# Altium footprint library PCB - LEADLESS - QFN - ST QFN-24 EP 4x4MM.PcbLib: 1 footprints
Each footprint in its own frame and in the unit in brackets; x right, y up, seen from the top. Pads: shape width x height; smd on the part's side, far side on the other; paste and mask are expansions set on the pad; w line width, h text height; cw(c..) or ccw(c..) is an arc to the next point about the centre after c.
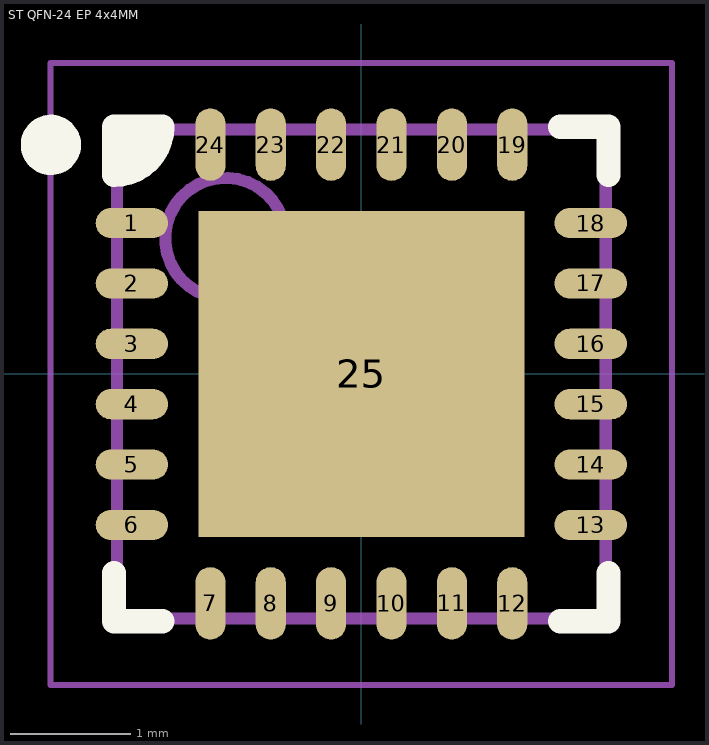
[diagram p0: the footprint, top view; thin cyan lines are the x and y axes]

## ST QFN-24 EP 4x4MM [mm] "QFN, 24-Leads, Body 4.00x4.00mm, Pitch 0.50mm, Thermal Pad 2.70x2.70mm, IPC Medium Density"
height 1
pads (25):
  oval 0.6x0.25 smd: 1(-1.9,1.25) 2(-1.9,0.75) 3(-1.9,0.25) 4(-1.9,-0.25) 5(-1.9,-0.75) 6(-1.9,-1.25) 13(1.9,-1.25) 14(1.9,-0.75) 15(1.9,-0.25) 16(1.9,0.25) 17(1.9,0.75) 18(1.9,1.25)
  oval 0.25x0.6 smd: 7(-1.25,-1.9) 8(-0.75,-1.9) 9(-0.25,-1.9) 10(0.25,-1.9) 11(0.75,-1.9) 12(1.25,-1.9) 19(1.25,1.9) 20(0.75,1.9) 21(0.25,1.9) 22(-0.25,1.9) 23(-0.75,1.9) 24(-1.25,1.9)
  rect 2.7x2.7 smd: 25(0,0)
Top Overlay:
  circle w0.25: c-2.571,1.898 r0.125
  region: -2.048,2.048 -1.648,2.048 -1.648,1.908 -1.908,1.648 -2.048,1.648
  lines w0.2: -2.048,-1.648 -2.048,-2.048 -1.648,-2.048 ; 1.648,-2.048 2.048,-2.048 2.048,-1.648 ; 1.648,2.048 2.048,2.048 2.048,1.648 ; -2.048,1.648 ccw(c-2.048,2.048) -1.648,2.048 -2.048,2.048 -2.048,1.648
Mechanical 13:
  circle w0.1: c-1.125,1.125 r0.5
  lines w0.1: -2.025,-2.025 2.025,-2.025 2.025,2.025 -2.025,2.025 -2.025,-2.025
Mechanical 15:
  lines w0.05: -2.575,-2.575 2.575,-2.575 2.575,2.575 -2.575,2.575 -2.575,-2.575
  lines w0.1: -0.5,0 0.5,0 ; 0,-0.5 0,0.5
3D body: height 1, standoff 0.01, extent -2.025,-2.025 2.025,2.025